# Altium footprint library 2108877_1.PcbLib: 1 footprints
Each footprint in its own frame and in the unit in brackets; x right, y up, seen from the top. Pads: shape width x height; smd on the part's side, far side on the other; paste and mask are expansions set on the pad; w line width, h text height; cw(c..) or ccw(c..) is an arc to the next point about the centre after c.
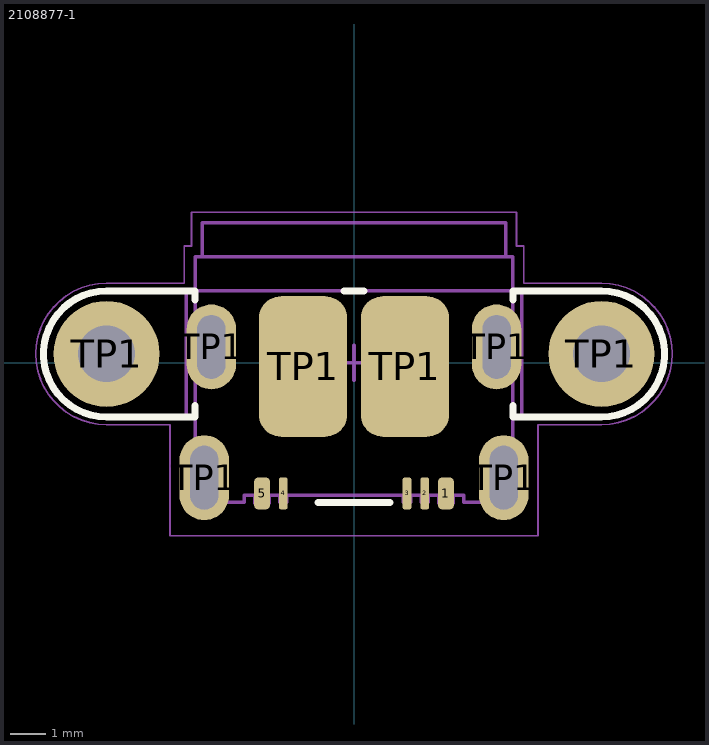
[diagram p0: the footprint, top view; thin cyan lines are the x and y axes]

## 2108877-1 [mm]
height 3.4
pads (13):
  rrect50% 0.45x0.9 smd: 1(2.6,-3.696) 5(-2.6,-3.696)
  rrect50% 0.25x0.9 smd: 2(2,-3.696) 3(1.5,-3.696) 4(-2,-3.696)
  round 3 hole 1.6: TP1(-7,0.25) TP1(7,0.25)
  oval 1.4x2.4 hole 0.8 slot 1.8 at 90 deg mask+0.102: TP1(-4.235,-3.25) TP1(-4.035,0.45) TP1(4.035,0.45) TP1(4.235,-3.25)
  rrect50% 2.5x3.98 smd: TP1(-1.441,-0.104) TP1(1.441,-0.104)
Top Overlay:
  lines w0.2: -4.496,-1.21 -4.496,-1.532 -7,-1.532 cw(c-7,0.25) -7,2.032 -4.496,2.032 ; -4.496,1.778 -4.496,2.032 ; -1.016,-3.95 0,-3.95 1.016,-3.95 ; -0.279,2.032 0,2.032 0.279,2.032 ; 4.496,-1.21 4.496,-1.532 7,-1.532 ccw(c7,0.25) 7,2.032 4.496,2.032 ; 4.496,1.778 4.496,2.032 ; -4.496,2.032 -4.496,2.032 ; 4.496,2.032 4.496,2.032
Mechanical 7:
  text ".Comment" at 0.897,4.68 h1.2
Top Designator:
  text ".Designator" at -0.5,4.68 h1.2
Top Component Outline:
  circle w0.1: c7,0.25 r0.8
  circle w0.1: c-7,0.25 r0.8
  lines w0.1: -4.75,-1.532 -4.75,2.032 ; -4.295,2.997 -4.295,3.962 4.295,3.962 4.295,2.997 ; -2.8,-3.75 -2.8,-3.975 -2.4,-3.975 -2.4,-3.75 ; -2.1,-3.75 -2.1,-3.95 -1.9,-3.95 -1.9,-3.75 ; 1.4,-3.75 1.4,-3.95 1.6,-3.95 1.6,-3.75 ; 1.9,-3.75 1.9,-3.95 2.1,-3.95 2.1,-3.75 ; 2.4,-3.75 2.4,-3.975 2.8,-3.975 2.8,-3.75 ; 4.75,-1.532 4.75,2.032 ; -4.496,-1.532 -7,-1.532 cw(c-7,0.25) -7,2.032 7,2.032 cw(c7,0.25) 7,-1.532 4.496,-1.532 ; -4.496,-1.532 -4.496,-3.95 -3.1,-3.95 -3.1,-3.75 0,-3.75 3.1,-3.75 3.1,-3.95 4.496,-3.95 4.496,-1.532 ; -4.496,-1.532 -4.496,2.997 4.496,2.997 4.496,-1.532 ; -4.496,2.032 -4.496,2.032 ; -4.496,2.032 -4.496,2.032
Top Courtyard:
  lines w0.05: -7,-1.75 cw(c-7,0.25) -7,2.25 -4.801,2.25 -4.801,3.302 -4.6,3.302 -4.6,4.255 0,4.255 4.6,4.255 4.6,3.302 4.801,3.302 4.801,2.25 7,2.25 cw(c7,0.25) 7,-1.75 5.207,-1.75 5.207,-4.889 0,-4.889 -5.207,-4.89 -5.207,-1.75 -7,-1.75
  lines w0.1: -0.5,0 0.5,0 ; 0,-0.5 0,0.5
3D body "2108877-1-b-3d(micro usb-b flanged).stp": height 3.39, standoff -0.64, extent -8.9,-3.95 8.9,3.95